# Altium footprint library Coil.PcbLib: 1 footprints
Each footprint in its own frame and in the unit in brackets; x right, y up, seen from the top. Pads: shape width x height; smd on the part's side, far side on the other; paste and mask are expansions set on the pad; w line width, h text height; cw(c..) or ccw(c..) is an arc to the next point about the centre after c.
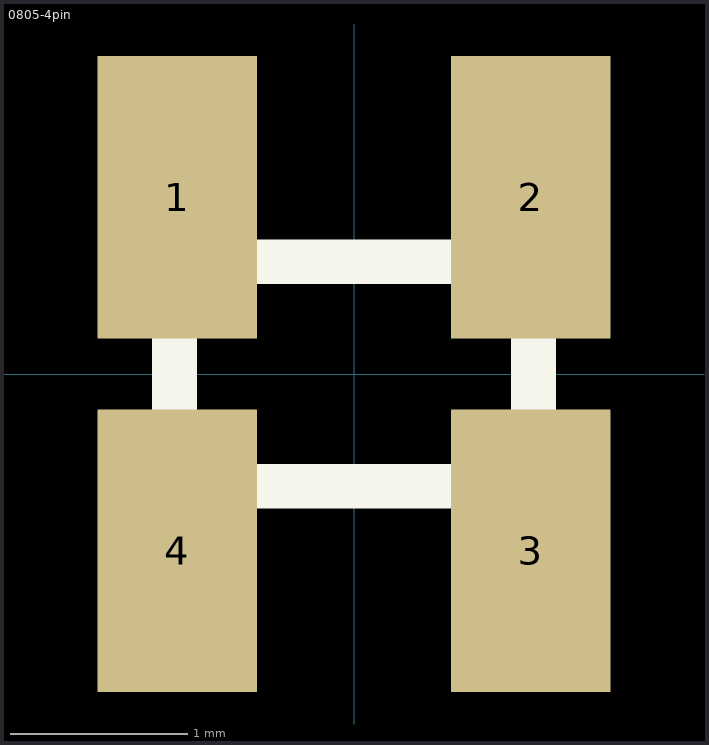
[diagram p0: the footprint, top view; thin cyan lines are the x and y axes]

## 0805-4pin [mm]
pads (4):
  rect 0.9x1.6 smd: 1(-1,1) 2(1,1) 3(1,-1) 4(-1,-1)
Top Overlay:
  lines w0.254: -1.016,-0.635 -1.016,0.635 1.016,0.635 1.016,-0.635 -1.016,-0.635
3D body: height 1.2, standoff 0, extent -1.143,-0.762 1.143,0.762